# Altium schematic symbol library ELLIPSE_TEST.SchLib: 1 symbol
Pins are listed as number, name and electrical type; pins without a type are passive.

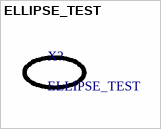
[diagram p0: symbol ELLIPSE_TEST]

## ELLIPSE_TEST
designator X?
Ellipse test